# Altium schematic symbol library SCH - INTERFACE - CAN - MAX14878.SCHLIB: 1 symbol
Pins are listed as number, name and electrical type; pins without a type are passive.

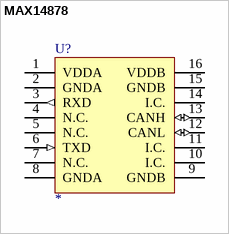
[diagram p0: symbol MAX14878]

## MAX14878
designator U?
5kV  Isolated CAN Transceivers
pins: 1 VDDA (power) "Power Supply Input for the Controller Side/A-Side. Bypass VDDA to GNDA with 0.1μF capacitor as close to the device as possible.", 2 GNDA (power), 3 RXD (out), 4 N.C. "No Connection. Not internally connected. Connect to GNDA, VDDA, or leave unconnected.", 5 N.C. "No Connection. Not internally connected. Connect to GNDA, VDDA, or leave unconnected.", 6 TXD (in), 7 N.C. "No Connection. Not internally connected. Connect to GNDA, VDDA, or leave unconnected.", 8 GNDA (power), 9 GNDB (power), 10 I.C. "Internally Connected. Connect to GNDB or leave unconnected.", 11 I.C. "Internally Connected. Connect to GNDB, VDDB, or leave unconnected.", 12 CANL (io) "Differential I/O", 13 CANH (io) "Differential I/O", 14 I.C. "Internally Connected. Connect to GNDB or leave unconnected.", 15 GNDB (power), 16 VDDB (power) "Power Supply Input for the CAN Bus Side/B-Side. Bypass VDDB to GNDB with a 0.1μF capacitor as close to the device as possible."